# Altium footprint library Transformers.PcbLib: 2 footprints
Each footprint in its own frame and in the unit in brackets; x right, y up, seen from the top. Pads: shape width x height; smd on the part's side, far side on the other; paste and mask are expansions set on the pad; w line width, h text height; cw(c..) or ccw(c..) is an arc to the next point about the centre after c.
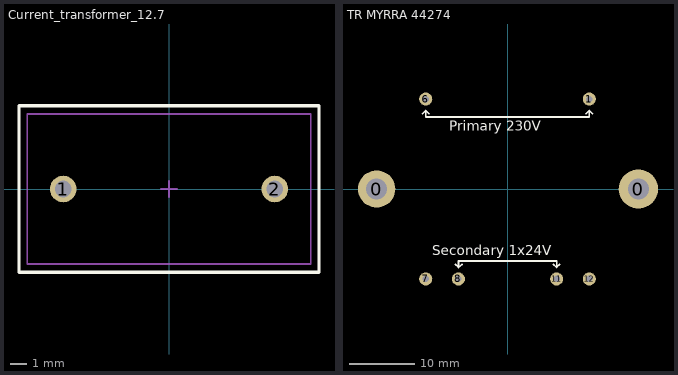
[diagram p0: the footprints below, top view; thin cyan lines are the x and y axes]

## Current_transformer_12.7 [mm] "AS-100, HM31-20050LF"
height 22
pads (2):
  round 1.6 hole 1: 1(-6.35,0) 2(6.35,0)
Top Overlay:
  lines w0.2: -9,-5 -9,5 9,5 9,-5 -9,-5
Mechanical 15:
  lines w0.1: -0.5,0 0.5,0 ; 0,-0.5 0,0.5 ; -8.5,-4.5 -8.5,4.5 8.5,4.5 8.5,-4.5 -8.5,-4.5
3D body: height 20.6, standoff -3.8, extent -8.6,-4.9 8.6,4.6

## TR MYRRA 44274 [mm] "TR MYRRA 44274"
height 34.5
pads (8):
  round 5.7 hole 3.2 mask+1: 0(-20,0)
  round 6 hole 3.2 mask+1: 0(20,0)
  round 2 hole 1: 1(12.5,13.75) 6(-12.5,13.75) 7(-12.5,-13.75) 8(-7.5,-13.75) 11(7.5,-13.75) 12(12.5,-13.75)
Top Overlay:
  lines w0.254: -13,11.5 -12.5,12 ; -12,11.5 -12.5,12 ; -8,-11.5 -7.5,-12 ; -6.9,-11.5 -7.5,-12 ; 7,-11.5 7.5,-12 ; 8,-11.5 7.5,-12 ; 12,11.5 12.5,12 ; 13,11.5 12.5,12 ; -12.5,12 -12.5,11 12.5,11 12.5,12 ; -7.5,-12 -7.5,-11 7.5,-11 7.5,-12
  text "Secondary 1x24V" at -11.5,-10.1 h1.52
  text "Primary 230V" at -8.9,8.9 h1.52
3D body: height 34.6, standoff -1, extent -24.95,-21.05 24.95,21.05